# Altium footprint library WireFeeder.PcbLib: 29 footprints (part 2 of 2)
Each footprint in its own frame and in the unit in brackets; x right, y up, seen from the top. Pads: shape width x height; smd on the part's side, far side on the other; paste and mask are expansions set on the pad; w line width, h text height; cw(c..) or ccw(c..) is an arc to the next point about the centre after c.
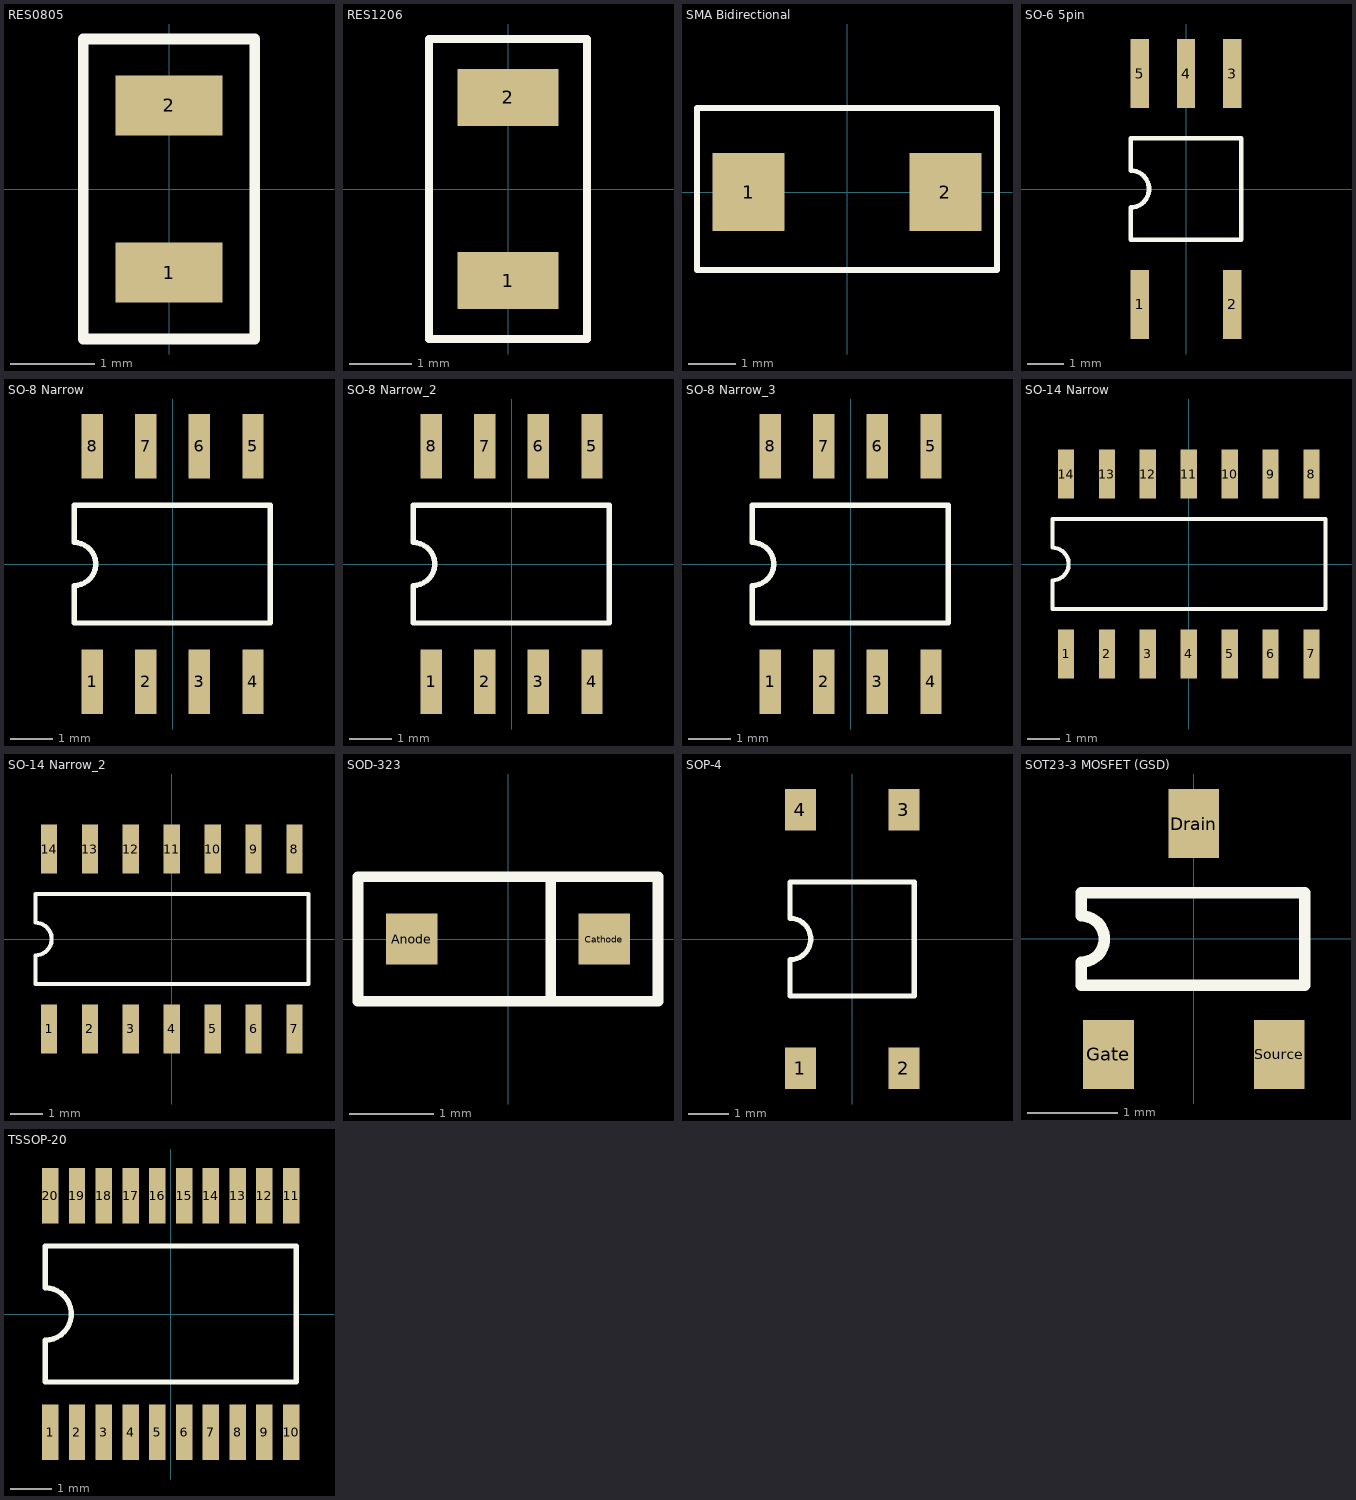
[diagram p1: the footprints below, top view; thin cyan lines are the x and y axes]

## RES0805 [mil]
pads (2):
  rect 50x28 smd: 1(0,-39) 2(0,39)
Top Overlay:
  lines w5: -40,-70 40,-70 40,70 -40,70 -40,-70
3D body "SMD Resistor 0805.STEP": height 19.76, standoff 0, extent -24.61,-39.37 24.6,39.37

## RES1206 [mil]
pads (2):
  rect 64x36 smd: 1(0,-58) 2(0,58)
Top Overlay:
  lines w5: -50,-95 -50,95 50,95 50,-95 -50,-95
3D body "SMD Resistor 1206.STEP": height 21.73, standoff 0, extent -31.5,-61.02 31.49,61.03

## SMA Bidirectional [mil]
pads (2):
  rect 60x65 smd: 1(-82,0) 2(82,0)
Top Overlay:
  lines w5: -125,-65 125,-65 125,70 -125,70 -125,-65
3D body "SMA (DO-214AC) BiDirection.STEP": height 90.68, standoff 0.13, extent -102.36,-57.08 102.36,57.09

## SO-6 5pin [mil]
pads (5):
  rect 20x75 smd: 1(-50,-125) 2(50,-125) 3(50,125) 4(0,125) 5(-50,125)
Top Overlay:
  lines w5: -60,-55 -60,-20 ccw(c-60,0) -60,20 -60,55 60,55 60,-55 -60,-55
3D body "SO-5.STEP": height 105.18, standoff -1.12, extent -70.87,-137.8 70.87,137.8

## SO-8 Narrow [mil]
pads (8):
  rect 20x60 smd: 1(-75,-110) 2(-25,-110) 3(25,-110) 4(75,-110) 5(75,110) 6(25,110) 7(-25,110) 8(-75,110)
Top Overlay:
  lines w5: -91.75,-55 91,-55 91,55 -91.75,55 -91.75,20 cw(c-91.75,0) -91.75,-20 -91.75,-55
3D body "SO-8 Narrow.step": height 57, standoff 0, extent -96.74,-115 96.26,112.49

## SO-8 Narrow_2 [mil]
pads (8):
  rect 20x60 smd: 1(-75,-110) 2(-25,-110) 3(25,-110) 4(75,-110) 5(75,110) 6(25,110) 7(-25,110) 8(-75,110)
Top Overlay:
  lines w5: -91.75,-55 -91.75,-20 ccw(c-91.75,0) -91.75,20 -91.75,55 91,55 91,-55 -91.75,-55
3D body "SO-8 Narrow.step": height 57, standoff 0, extent -96.75,-115 96.25,112.49

## SO-8 Narrow_3 [mil]
pads (8):
  rect 20x60 smd: 1(-75,-110) 2(-25,-110) 3(25,-110) 4(75,-110) 5(75,110) 6(25,110) 7(-25,110) 8(-75,110)
Top Overlay:
  lines w5: -91.75,-55 -91.75,-20 ccw(c-91.75,0) -91.75,20 -91.75,55 91,55 91,-55 -91.75,-55
3D body "SO-8 Narrow.step": height 57, standoff 0, extent -96.74,-115 96.26,112.49

## SO-14 Narrow [mil]
pads (14):
  rect 20x60 smd: 1(-150,-110) 2(-100,-110) 3(-50,-110) 4(0,-110) 5(50,-110) 6(100,-110) 7(150,-110) 8(150,110) 9(100,110) 10(50,110) 11(0,110) 12(-50,110) 13(-100,110) 14(-150,110)
Top Overlay:
  lines w5: -166.75,-55 -166.75,-20 ccw(c-166.75,0) -166.75,20 -166.75,55 167,55 167,-55 -166.75,-55
3D body "SOIC-14 Narrow.step": height 68.9, standoff 0, extent -172.24,-118.11 172.24,118.11

## SO-14 Narrow_2 [mil]
pads (14):
  rect 20x60 smd: 1(-150,-110) 2(-100,-110) 3(-50,-110) 4(0,-110) 5(50,-110) 6(100,-110) 7(150,-110) 8(150,110) 9(100,110) 10(50,110) 11(0,110) 12(-50,110) 13(-100,110) 14(-150,110)
Top Overlay:
  lines w5: -166.75,-55 -166.75,-20 ccw(c-166.75,0) -166.75,20 -166.75,55 167,55 167,-55 -166.75,-55
3D body "SOIC-14 Narrow.step": height 68.9, standoff 0, extent -172.24,-118.11 172.25,118.11

## SOD-323 [mil]
pads (2):
  rect 24x24 smd: Anode(-45,0) Cathode(45,0)
Top Overlay:
  lines w5: 20,-29 20,29 ; -70,-29 70,-29 70,29 -70,29 -70,-29
3D body "SOD-323.STEP": height 43.31, standoff 0, extent -51.18,-26.57 51.18,26.58

## SOP-4 [mil]
pads (4):
  rect 30x40 smd: 1(-50,-125) 2(50,-125) 3(50,125) 4(-50,125)
Top Overlay:
  lines w5: -60,-55 60,-55 60,55 -60,55 -60,20 cw(c-60,0) -60,-20 -60,-55
3D body "SOP-4.STEP": height 86.61, standoff 0.12, extent -74.8,-138.35 74.81,138.35

## SOT23-3 MOSFET (GSD) [mil]
pads (3):
  rect 22x30 smd: Drain(0,50) Gate(-37,-50) Source(37,-50)
Top Overlay:
  lines w5: -48.75,-20 -48.75,-10 ccw(c-48.75,0) -48.75,10 -48.75,20 48,20 48,-20 -48.75,-20
3D body "SOT23-3.step": height 51.18, standoff 0, extent -57.08,-55.11 57.09,55.12

## TSSOP-20 [mm]
pads (20):
  rect 0.4x1.35 smd: 1(-2.925,-2.875) 2(-2.275,-2.875) 3(-1.625,-2.875) 4(-0.975,-2.875) 5(-0.325,-2.875) 6(0.325,-2.875) 7(0.975,-2.875) 8(1.625,-2.875) 9(2.275,-2.875) 10(2.925,-2.875) 11(2.925,2.875) 12(2.275,2.875) 13(1.625,2.875) 14(0.975,2.875) 15(0.325,2.875) 16(-0.325,2.875) 17(-0.975,2.875) 18(-1.625,2.875) 19(-2.275,2.875) 20(-2.925,2.875)
Top Overlay:
  lines w0.127: -3.048,-1.651 3.048,-1.651 3.048,1.651 -3.048,1.651 -3.048,0.635 cw(c-3.048,0) -3.048,-0.635 -3.048,-1.651
3D body "TSSOP-20.STEP": height 1.1, standoff 0, extent -3.25,-3.21 3.25,3.211